# Altium footprint library TO-92_(TO-226).PcbLib: 1 footprints
Each footprint in its own frame and in the unit in brackets; x right, y up, seen from the top. Pads: shape width x height; smd on the part's side, far side on the other; paste and mask are expansions set on the pad; w line width, h text height; cw(c..) or ccw(c..) is an arc to the next point about the centre after c.
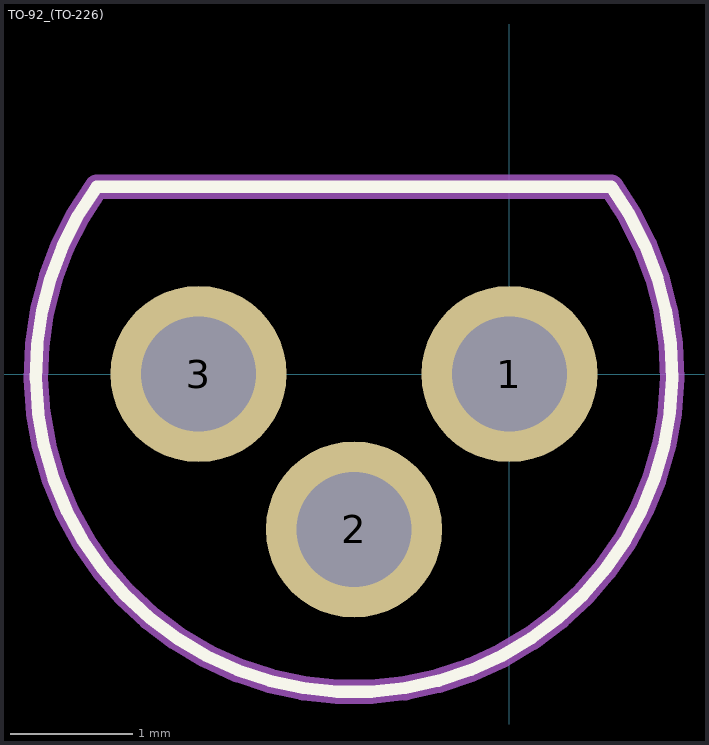
[diagram p0: the footprint, top view; thin cyan lines are the x and y axes]

## TO-92_(TO-226) [mm]
pads (3):
  round 1.44 hole 0.94: 1(0,0) 2(-1.27,-1.27) 3(-2.54,0)
L26-Silk Screen Top (Multiple PADS layers...):
  lines w0.1: -3.373,1.528 ccw(c-1.27,0) 0.831,1.532 ; -3.372,1.53 0.832,1.53
L15 (Multiple PADS layers...):
  lines w0.2: -3.373,1.528 ccw(c-1.27,0) 0.831,1.532 ; -3.372,1.53 0.832,1.53